# Altium footprint library SOP-28_300mil.PcbLib: 1 footprints
Each footprint in its own frame and in the unit in brackets; x right, y up, seen from the top. Pads: shape width x height; smd on the part's side, far side on the other; paste and mask are expansions set on the pad; w line width, h text height; cw(c..) or ccw(c..) is an arc to the next point about the centre after c.
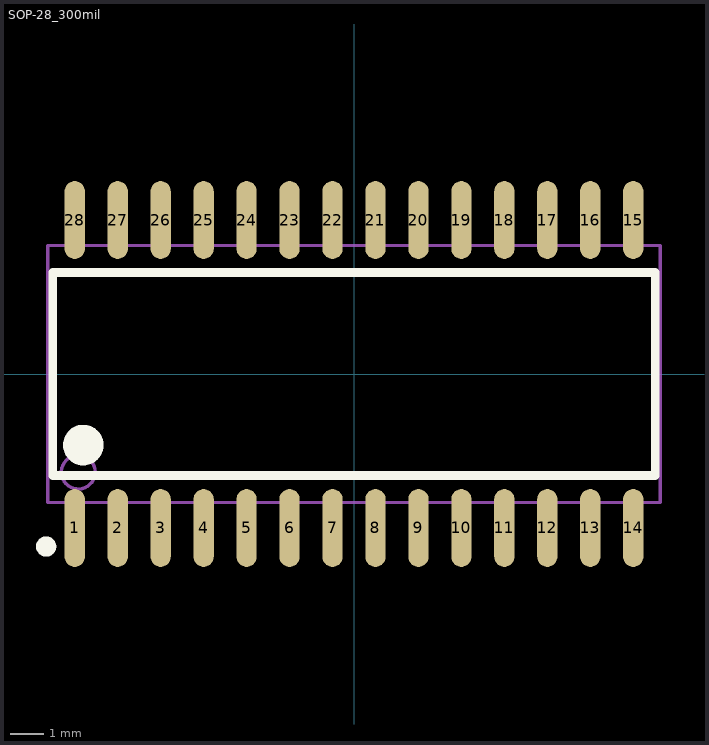
[diagram p0: the footprint, top view; thin cyan lines are the x and y axes]

## SOP-28_300mil [mm]
pads (28):
  oval 0.6x2.3 smd: 1(-8.255,-4.55) 2(-6.985,-4.55) 3(-5.715,-4.55) 4(-4.445,-4.55) 5(-3.175,-4.55) 6(-1.905,-4.55) 7(-0.635,-4.55) 8(0.635,-4.55) 9(1.905,-4.55) 10(3.175,-4.55) 11(4.445,-4.55) 12(5.715,-4.55) 13(6.985,-4.55) 14(8.255,-4.55) 15(8.255,4.55) 16(6.985,4.55) 17(5.715,4.55) 18(4.445,4.55) 19(3.175,4.55) 20(1.905,4.55) 21(0.635,4.55) 22(-0.635,4.55) 23(-1.905,4.55) 24(-3.175,4.55) 25(-4.445,4.55) 26(-5.715,4.55) 27(-6.985,4.55) 28(-8.255,4.55)
Top Overlay:
  circle w0.6: c-8,-2.1 r0.3
  circle w0.3: c-9.1,-5.1 r0.15
  lines w0.254: -8.9,-3 8.9,-3 8.9,3 -8.9,3 -8.9,-3
Mechanical 13:
  circle w0.1: c-8.15,-2.9 r0.5
  lines w0.1: -9.05,-3.8 9.05,-3.8 9.05,3.8 -9.05,3.8 -9.05,-3.8